# Altium footprint library 1188E1K2VTR.PcbLib: 1 footprints
Each footprint in its own frame and in the unit in brackets; x right, y up, seen from the top. Pads: shape width x height; smd on the part's side, far side on the other; paste and mask are expansions set on the pad; w line width, h text height; cw(c..) or ccw(c..) is an arc to the next point about the centre after c.
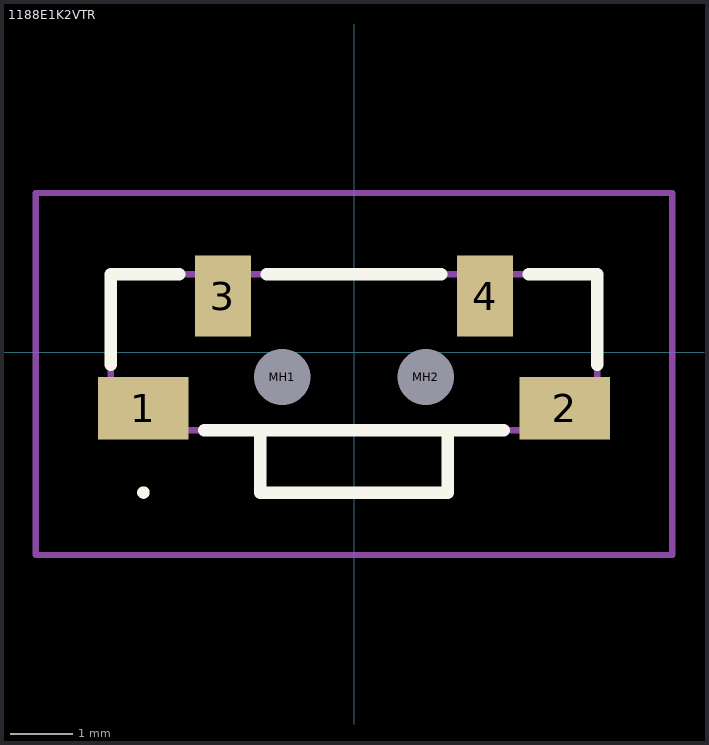
[diagram p0: the footprint, top view; thin cyan lines are the x and y axes]

## 1188E1K2VTR [mm]
pads (6):
  rect 1.45x1 smd: 1(-3.375,-0.9) 2(3.375,-0.9)
  rect 0.9x1.3 smd: 3(-2.1,0.9) 4(2.1,0.9)
  round 0.45 hole 0.9 unplated: MH1(-1.15,-0.4) MH2(1.15,-0.4)
Top Overlay:
  lines w0.1: -3.375,-2.3 cw(c-3.375,-2.25) -3.375,-2.2 ; -3.375,-2.3 -3.375,-2.3 ; -3.375,-2.3 ccw(c-3.375,-2.25) -3.375,-2.2 ; -3.375,-2.2 -3.375,-2.2
  lines w0.2: -3.9,-0.2 -3.9,1.25 -2.8,1.25 ; -2.4,-1.25 2.4,-1.25 ; -1.5,-1.25 -1.5,-2.25 1.5,-2.25 1.5,-1.25 ; -1.4,1.25 1.4,1.25 ; 2.8,1.25 3.9,1.25 3.9,-0.2
Mechanical 15:
  lines w0.1: -3.9,-1.25 3.9,-1.25 3.9,1.25 -3.9,1.25 -3.9,-1.25 ; -1.5,-2.25 1.5,-2.25 1.5,-1.25 -1.5,-1.25 -1.5,-2.25
Mechanical 20:
  lines w0.1: -5.1,-3.25 5.1,-3.25 5.1,2.55 -5.1,2.55 -5.1,-3.25